# EAGLE library part SGTL5000XNLA3R2 (library SamacSys_Parts)
NXP - SGTL5000XNLA3R2 - Audio-Codec, Stereo, 1, 1, -40 ?C, 85 ?C, 48 kSPS Source: Datasheet <http://www.nxp.com/docs/en/data-sheet/SGTL5000.pdf>
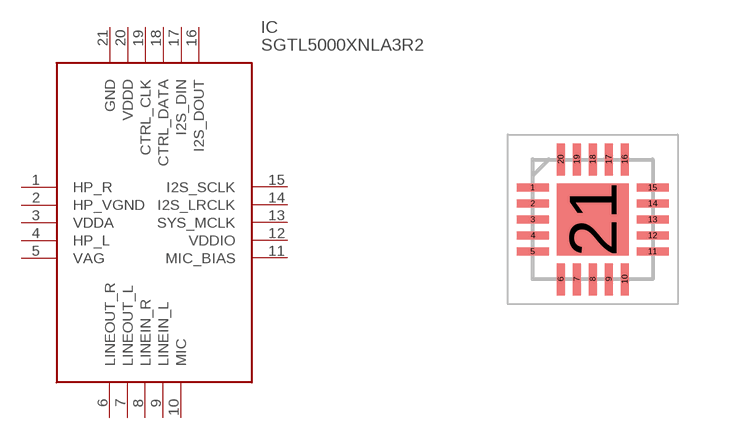
[diagram p6: symbol with the pads of QFN40P300X300X60-21N; footprint QFN40P300X300X60-21N]

Designator prefix IC

## SGTL5000XNLA3R2 (Description: NXP - SGTL5000XNLA3R2 - Audio-Codec, Stereo, 1, 1, -40 ?C, 85 ?C, 48 kSPS; Height: 0.6mm; Manufacturer_Name: NXP; Manufacturer_Part_Number: SGTL5000XNLA3R2; Mouser_Part_Number: 841-SGTL5000XNLA3R2; Mouser_Price-Stock: https://www.mouser.co.uk/ProductDetail/NXP-Semiconductors/SGTL5000XNLA3R2?qs=g5o6z0NmdpRyTqz1GkwAeA%3D%3D)  [QFN40P300X300X60-21N]
1  HP_R
2  HP_VGND
3  VDDA
4  HP_L
5  VAG
6  LINEOUT_R
7  LINEOUT_L
8  LINEIN_R
9  LINEIN_L
10  MIC
11  MIC_BIAS
12  VDDIO
13  SYS_MCLK
14  I2S_LRCLK
15  I2S_SCLK
16  I2S_DOUT
17  I2S_DIN
18  CTRL_DATA
19  CTRL_CLK
20  VDDD
21  GND

## Footprint QFN40P300X300X60-21N (pad centres in mm)
20 QFN
smd 0.8 x 0.2: 1 -1.5,0.8; 2 -1.5,0.4; 3 -1.5,0; 4 -1.5,-0.4; 5 -1.5,-0.8; 11 1.5,-0.8; 12 1.5,-0.4; 13 1.5,0; 14 1.5,0.4; 15 1.5,0.8
smd 0.2 x 0.8: 6 -0.8,-1.5; 7 -0.4,-1.5; 8 0,-1.5; 9 0.4,-1.5; 10 0.8,-1.5; 16 0.8,1.5; 17 0.4,1.5; 18 0,1.5; 19 -0.4,1.5; 20 -0.8,1.5
smd 1.8 x 1.8: 21 0,0